# Altium footprint library SSOP-28.PcbLib: 1 footprints
Each footprint in its own frame and in the unit in brackets; x right, y up, seen from the top. Pads: shape width x height; smd on the part's side, far side on the other; paste and mask are expansions set on the pad; w line width, h text height; cw(c..) or ccw(c..) is an arc to the next point about the centre after c.
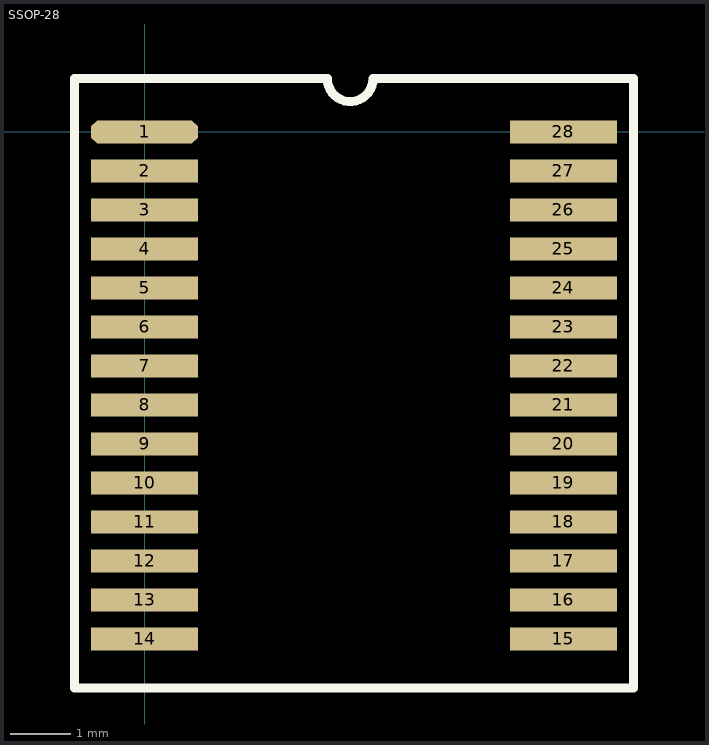
[diagram p0: the footprint, top view; thin cyan lines are the x and y axes]

## SSOP-28 [mil]
pads (28):
  oct 70x15 smd mask+5: 1(0,0)
  rect 70x15 smd mask+5: 2(0,-25.59) 3(0,-51.18) 4(0,-76.77) 5(0,-102.36) 6(0,-127.95) 7(0,-153.54) 8(0,-179.13) 9(0,-204.72) 10(0,-230.32) 11(0,-255.91) 12(0,-281.5) 13(0,-307.09) 14(0,-332.68) 15(275,-332.68) 16(275,-307.09) 17(275,-281.5) 18(275,-255.91) 19(275,-230.32) 20(275,-204.72) 21(275,-179.13) 22(275,-153.54) 23(275,-127.95) 24(275,-102.36) 25(275,-76.77) 26(275,-51.18) 27(275,-25.59) 28(275,0)
Top Overlay:
  lines w6: -46,-365 321,-365 321,35 150,35 cw(c135,35) 120,35 -46,35 -46,-365